# Altium schematic symbol library Components - 04.02.26 - 23.01.SchLib: 1 symbol
Pins are listed as number, name and electrical type; pins without a type are passive.

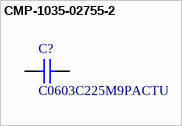
[diagram p0: symbol CMP-1035-02755-2]

## CMP-1035-02755-2
designator C?, comment C0603C225M9PACTU
Manufacturer: Kemet; Part Number: C0603C225M9PACTU
footprint CAPC1608X90X35ML15T15 (Chip Capacitor, 2-Leads, Body 1.60x0.81mm, IPC Low Density)
footprint CAPC1608X90X35LL15T15 (Chip Capacitor, 2-Leads, Body 1.60x0.81mm, IPC High Density)
footprint CAPC1608X90X35NL15T15 (Chip Capacitor, 2-Leads, Body 1.60x0.81mm, IPC Medium Density)
pins: 1, 2
1 alternate drawing of the same symbol